# Altium footprint library Lis344.PcbLib: 1 footprints
Each footprint in its own frame and in the unit in brackets; x right, y up, seen from the top. Pads: shape width x height; smd on the part's side, far side on the other; paste and mask are expansions set on the pad; w line width, h text height; cw(c..) or ccw(c..) is an arc to the next point about the centre after c.
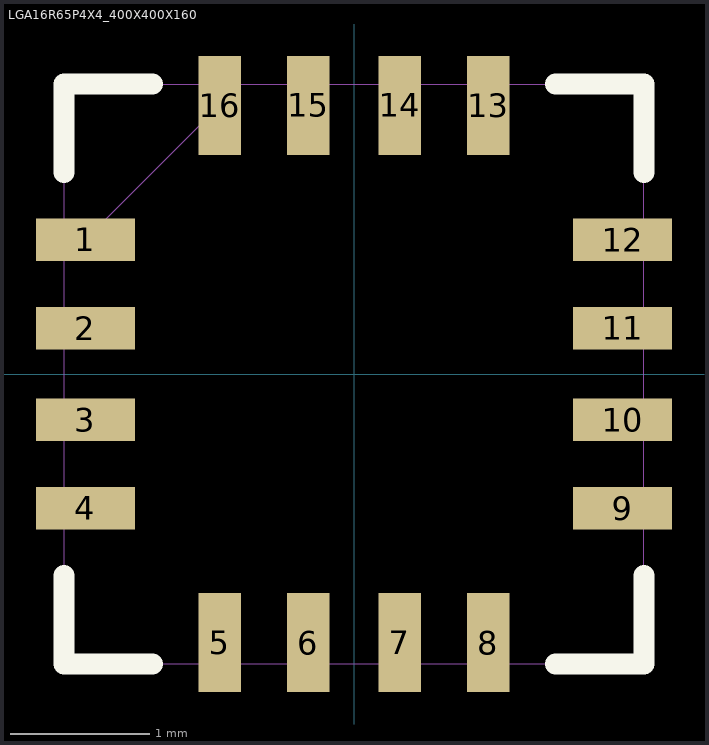
[diagram p0: the footprint, top view; thin cyan lines are the x and y axes]

## LGA16R65P4X4_400X400X160 [mil]
pads (16):
  rect 28x12 smd: 1(-76,38) 2(-76,13) 3(-76,-13) 4(-76,-38) 9(76,-38) 10(76,-13) 11(76,13) 12(76,38)
  rect 12x28 smd: 5(-38,-76) 6(-13,-76) 7(13,-76) 8(38,-76) 13(38,76) 14(13,76) 15(-13,76) 16(-38,76)
Top Overlay:
  lines w6: -82,-57 -82,-82 -57,-82 ; -82,57 -82,82 -57,82 ; 57,-82 82,-82 82,-57 ; 57,82 82,82 82,57
Mechanical 13:
  lines w0: -82,-44 -82,-32 ; -82,-19 -82,-7 ; -82,7 -82,19 ; -82,44 -82,32 -32,82 -44,82 ; -44,-82 -32,-82 ; -19,-82 -7,-82 ; -19,82 -7,82 ; 7,-82 19,-82 ; 7,82 19,82 ; 32,-82 44,-82 ; 32,82 44,82 ; 82,-44 82,-32 ; 82,-19 82,-7 ; 82,7 82,19 ; 82,32 82,44 ; -82,-82 -82,82 82,82 82,-82 -82,-82